# EAGLE library part LOGIC-QUAD2INPUT-NOR (library CougsInSpace)
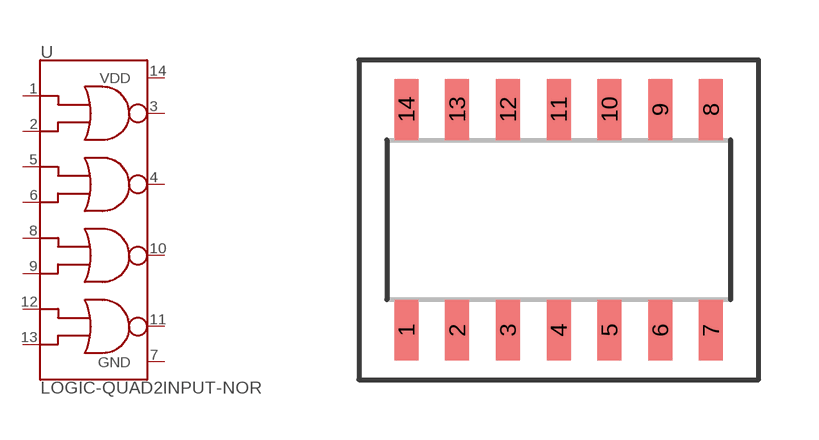
[diagram p3: symbol with the pads of SOIC-14; footprint SOIC-14]

Designator prefix U

## LOGIC-QUAD2INPUT-NOR  [SOIC-14]
1  A
2  B
3  J  out
4  K  out
5  C
6  D
7  GND  pwr
8  E
9  F
10  L  out
11  M  out
12  G
13  H
14  VDD  pwr

## Footprint SOIC-14 (pad centres in mm)
smd 0.6 x 1.52: 1 -3.81,-2.76; 2 -2.54,-2.76; 3 -1.27,-2.76; 4 0,-2.76; 5 1.27,-2.76; 6 2.54,-2.76; 7 3.81,-2.76; 8 3.81,2.76; 9 2.54,2.76; 10 1.27,2.76; 11 0,2.76; 12 -1.27,2.76; 13 -2.54,2.76; 14 -3.81,2.76